# EAGLE library part MIC2026 (library AWJLEagleLib)
Micrel 2026 high-side MOSFET controller with over current sense
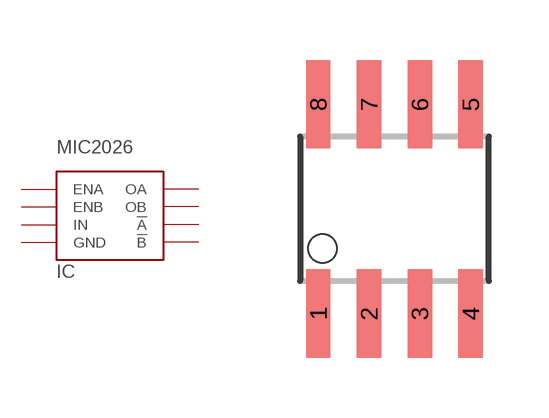
[diagram p16: symbol with the pads of SO08; footprint SO08]

Designator prefix IC

## MIC2026  [SO08]
1  ENA
2  !A
3  !B
4  ENB
5  OB
6  GND
7  IN
8  OA

## Footprint SO08 (pad centres in mm)
smd 0.61 x 2.21: 1 -1.905,-2.616; 2 -0.635,-2.616; 3 0.635,-2.616; 4 1.905,-2.616; 5 1.905,2.616; 6 0.635,2.616; 7 -0.635,2.616; 8 -1.905,2.616